# Altium footprint library MOLEX_5025850470.PcbLib: 1 footprints
Each footprint in its own frame and in the unit in brackets; x right, y up, seen from the top. Pads: shape width x height; smd on the part's side, far side on the other; paste and mask are expansions set on the pad; w line width, h text height; cw(c..) or ccw(c..) is an arc to the next point about the centre after c.
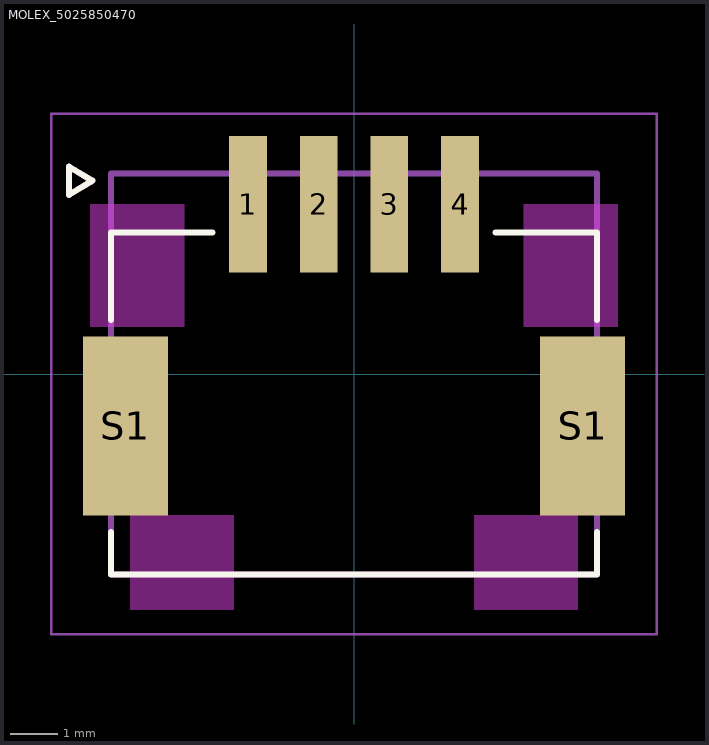
[diagram p0: the footprint, top view; thin cyan lines are the x and y axes]

## MOLEX_5025850470 [mm]
pads (6):
  rect 0.8x2.9 smd mask+0.076: 1(-2.25,3.6) 2(-0.75,3.6) 3(0.75,3.6) 4(2.25,3.6)
  rect 1.8x3.8 smd mask+0.076: S1(-4.85,-1.1) S1(4.85,-1.1)
Top Overlay:
  lines w0.127: -5.15,-3.35 -5.15,-4.25 5.15,-4.25 5.15,-3.35 ; -5.15,1.15 -5.15,3 -3,3 ; 3,3 5.15,3 5.15,1.15 ; -6.05,3.8 -6.05,4.4 -5.55,4.1 -6.05,3.8
Keep-Out Layer:
  region: -3.6,1 -5.6,1 -5.6,3.6 -3.6,3.6
  region: -2.55,-5 -4.75,-5 -4.75,-3 -2.55,-3
  region: 5.6,1 3.6,1 3.6,3.6 5.6,3.6
  region: 4.75,-5 2.55,-5 2.55,-3 4.75,-3
Mechanical 13:
  lines w0.127: -6.05,3.8 -6.05,4.4 -5.55,4.1 -6.05,3.8 ; -5.15,-4.25 5.15,-4.25 5.15,4.25 -5.15,4.25 -5.15,-4.25
Mechanical 15:
  lines w0.05: -6.42,-5.52 -6.42,5.52 6.42,5.52 6.42,-5.52 -6.42,-5.52
3D body "5025850470.stp": height 6.38, standoff -0.02, extent -5.15,-3.942 5.15,4.558